# Altium footprint library jumper.PCBLIB: 66 footprints (part 2 of 5)
Each footprint in its own frame and in the unit in brackets; x right, y up, seen from the top. Pads: shape width x height; smd on the part's side, far side on the other; paste and mask are expansions set on the pad; w line width, h text height; cw(c..) or ccw(c..) is an arc to the next point about the centre after c.
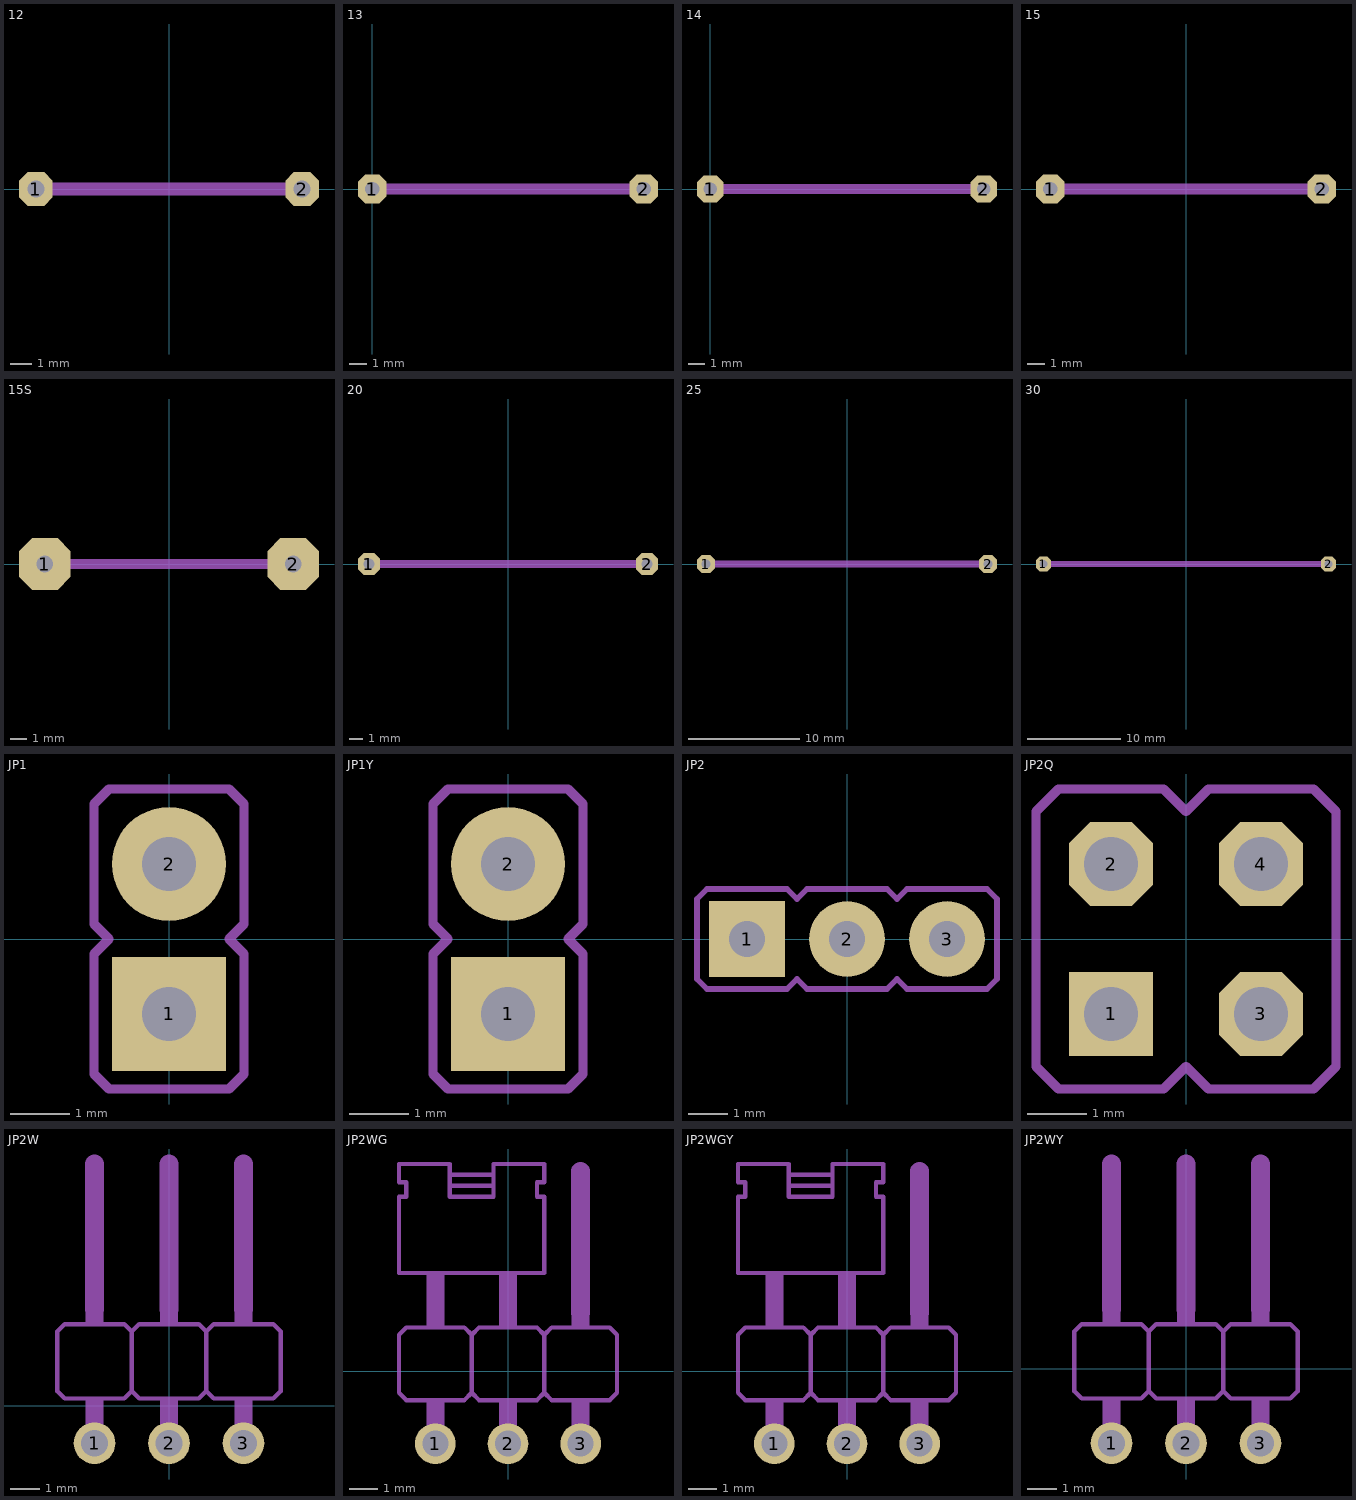
[diagram p1: the footprints below, top view; thin cyan lines are the x and y axes]

## 12 [mil]
pads (2):
  oct 63x63 / inner round 58.2 / far side oct 63x63 hole 32: 1(-250,0) 2(250,0)
Mechanical 3:
  lines w24: -250,0 -205,0 ; 205,0 250,0
Mechanical 7:
  lines w24: -203,0 203,0

## 13 [mil]
pads (2):
  oct 63x63 / inner round 58.2 / far side oct 63x63 hole 32: 1(0,0) 2(600,0)
Mechanical 3:
  lines w24: 0,0 445,0 ; 555,0 600,0
Mechanical 7:
  lines w24: 447,0 553,0

## 14 [mil]
pads (2):
  oct 63x63 / inner round 58.2 / far side oct 63x63 hole 32: 1(0,0) 2(650,0)
Mechanical 3:
  lines w24: 0,0 495,0 ; 605,0 650,0
Mechanical 7:
  lines w24: 497,0 603,0

## 15 [mil]
pads (2):
  oct 63x63 / inner round 58.2 / far side oct 63x63 hole 32: 1(-300,0) 2(300,0)
Mechanical 3:
  lines w24: -300,0 -255,0 ; 255,0 300,0
Mechanical 7:
  lines w24: -253,0 253,0

## 15S [mil]
pads (2):
  oct 125x125 / inner round 115.48 / far side oct 125x125 hole 40: 1(-300,0) 2(300,0)
Mechanical 3:
  lines w24: -300,0 -205,0 ; 205,0 300,0
Mechanical 7:
  lines w24: -203,0 203,0

## 20 [mil]
pads (2):
  oct 63x63 / inner round 58.2 / far side oct 63x63 hole 32: 1(-400,0) 2(400,0)
Mechanical 3:
  lines w24: -400,0 -355,0 ; 355,0 400,0
Mechanical 7:
  lines w24: -353,0 353,0

## 25 [mil]
pads (2):
  oct 63x63 / inner round 58.2 / far side oct 63x63 hole 32: 1(-500,0) 2(500,0)
Mechanical 3:
  lines w24: -500,0 -455,0 ; 455,0 500,0
Mechanical 7:
  lines w24: -453,0 453,0

## 30 [mil]
pads (2):
  oct 63x63 / inner round 58.2 / far side oct 63x63 hole 32: 1(-600,0) 2(600,0)
Mechanical 3:
  lines w24: -600,0 -555,0 ; 555,0 600,0
Mechanical 7:
  lines w24: -553,0 553,0

## JP1 [mil]
pads (2):
  rect 76x76 / inner round 70.21 / far side rect 76x76 hole 36: 1(0,-50)
  round 76 hole 36: 2(0,50)
Mechanical 3:
  region: -12,38 -12,62 12,62 12,38
  region: -12,-62 -12,-38 12,-38 12,-62
Mechanical 7:
  lines w6: -50,-90 -50,-10 -40,0 -50,10 -50,90 -40,100 40,100 50,90 50,10 40,0 50,-10 50,-90 40,-100 -40,-100 -50,-90

## JP1Y [mil]
pads (2):
  rect 76x76 / inner round 70.21 / far side rect 76x76 hole 36: 1(0,-50)
  round 76 hole 36: 2(0,50)
Mechanical 3:
  region: -12,38 -12,62 12,62 12,38
  region: -12,-62 -12,-38 12,-38 12,-62
  lines w6: -50,-80 -50,-20 ; -50,20 -50,80 ; 50,-80 50,-20 ; 50,20 50,80
Mechanical 7:
  lines w6: -50,-80 -50,-90 -40,-100 40,-100 50,-90 50,-80 ; -50,-20 -50,-10 -40,0 -50,10 -50,20 ; -50,80 -50,90 -40,100 40,100 50,90 50,80 ; 50,-20 50,-10 40,0 50,10 50,20

## JP2 [mil]
pads (3):
  rect 76x76 / inner round 70.21 / far side rect 76x76 hole 36: 1(-100,0)
  round 76 hole 36: 2(0,0) 3(100,0)
Mechanical 3:
  region: -112,-12 -112,12 -88,12 -88,-12
  region: -12,-12 -12,12 12,12 12,-12
  region: 88,-12 88,12 112,12 112,-12
Mechanical 7:
  lines w6: -150,-40 -150,40 -140,50 -60,50 -50,40 -40,50 40,50 50,40 60,50 140,50 150,40 150,-40 140,-50 60,-50 50,-40 40,-50 -40,-50 -50,-40 -60,-50 -140,-50 -150,-40

## JP2Q [mil]
pads (4):
  rect 56x56 / inner round 51.74 / far side rect 56x56 hole 36: 1(-50,-50)
  oct 56x56 / inner round 51.74 / far side oct 56x56 hole 36: 2(-50,50) 3(50,-50) 4(50,50)
Mechanical 3:
  region: -62,-62 -62,-38 -38,-38 -38,-62
  region: 38,-62 38,-38 62,-38 62,-62
  region: 38,38 38,62 62,62 62,38
  region: -62,38 -62,62 -38,62 -38,38
Mechanical 7:
  lines w6: -100,-85 -85,-100 -15,-100 0,-85 15,-100 85,-100 100,-85 100,85 85,100 15,100 0,85 -15,100 -85,100 -100,85 -100,-85

## JP2W [mil]
pads (3):
  round 56 hole 36: 1(-100,-50) 2(0,-50) 3(100,-50)
Mechanical 3:
  region: 88,-60 88,-10 112,-10 112,-60
  region: -12,-60 -12,-10 12,-10 12,-60
  region: -112,-60 -112,-10 -88,-10 -88,-60
Mechanical 7:
  region: 88,110 88,130 112,130 112,110
  region: 88,-10 88,10 112,10 112,-10
  region: -12,-10 -12,10 12,10 12,-10
  region: -112,-10 -112,10 -88,10 -88,-10
  region: -12,110 -12,130 12,130 12,110
  region: -112,110 -112,130 -88,130 -88,110
  lines w6: -50,20 -50,100 ; -50,20 -40,10 40,10 50,20 ; -50,20 -60,10 -140,10 -150,20 -150,100 -140,110 -60,110 -50,100 ; -50,100 -40,110 40,110 50,100 ; 50,20 60,10 140,10 150,20 150,100 140,110 60,110 50,100 ; 50,20 50,100
  lines w26: -100,130 -100,325 ; 0,130 0,325 ; 100,130 100,325
  text "1" at -110,50 h60.45
  text "2" at -15,50 h60.45
  text "3" at 80,50 h60.45

## JP2WG [mil]
pads (3):
  round 56 hole 36: 1(-100,-100) 2(0,-100) 3(100,-100)
Mechanical 3:
  region: 88,-110 88,-60 112,-60 112,-110
  region: -12,-110 -12,-60 12,-60 12,-110
  region: -112,-110 -112,-60 -88,-60 -88,-110
Mechanical 7:
  region: 88,60 88,80 112,80 112,60
  region: 88,-60 88,-40 112,-40 112,-60
  region: -12,-60 -12,-40 12,-40 12,-60
  region: -112,-60 -112,-40 -88,-40 -88,-60
  region: -12,60 -12,135 12,135 12,60
  region: -112,60 -112,135 -88,135 -88,60
  lines w6: -80,255 -20,255 ; -80,255 -80,270 ; -80,255 -80,240 -20,240 -20,255 ; -80,270 -80,285 -150,285 -150,260 -140,260 -140,240 -150,240 -150,135 50,135 50,240 40,240 40,260 50,260 50,285 -20,285 -20,270 ; -80,270 -20,270 ; -50,-30 -50,50 ; -50,-30 -40,-40 40,-40 50,-30 ; -50,-30 -60,-40 -140,-40 -150,-30 -150,50 -140,60 -60,60 -50,50 ; -50,50 -40,60 40,60 50,50 ; -20,255 -20,270 ; 50,-30 60,-40 140,-40 150,-30 150,50 140,60 60,60 50,50 ; 50,-30 50,50
  lines w26: 100,80 100,275
  text "1" at -110,0 h60.45
  text "2" at -15,0 h60.45
  text "3" at 80,0 h60.45

## JP2WGY [mil]
pads (3):
  round 56 hole 36: 1(-100,-100) 2(0,-100) 3(100,-100)
Mechanical 3:
  region: 88,-110 88,-40 112,-40 112,-110
  region: -12,-110 -12,-40 12,-40 12,-110
  region: -112,-110 -112,-40 -88,-40 -88,-110
  lines w6: -120,-40 -80,-40 ; -20,-40 20,-40 ; 80,-40 120,-40
Mechanical 7:
  region: -112,60 -112,135 -88,135 -88,60
  region: -12,60 -12,135 12,135 12,60
  region: 88,60 88,80 112,80 112,60
  lines w6: -120,-40 -140,-40 -150,-30 -150,50 -140,60 -60,60 -50,50 ; -80,-40 -60,-40 -50,-30 ; -20,-40 -40,-40 -50,-30 ; 20,-40 40,-40 50,-30 ; 80,-40 60,-40 50,-30 ; 120,-40 140,-40 150,-30 150,50 140,60 60,60 50,50 ; -80,255 -80,240 -20,240 -20,255 ; -80,255 -80,270 ; -80,255 -20,255 ; -80,270 -20,270 ; -80,270 -80,285 -150,285 -150,260 -140,260 -140,240 -150,240 -150,135 50,135 50,240 40,240 40,260 50,260 50,285 -20,285 -20,270 ; -50,-30 -50,50 ; -50,50 -40,60 40,60 50,50 ; -20,255 -20,270 ; 50,-30 50,50
  lines w26: 100,80 100,275
  text "3" at 80,0 h60.45
  text "2" at -15,0 h60.45
  text "1" at -110,0 h60.45

## JP2WY [mil]
pads (3):
  round 56 hole 36: 1(-100,-100) 2(0,-100) 3(100,-100)
Mechanical 3:
  region: 88,-110 88,-40 112,-40 112,-110
  region: -12,-110 -12,-40 12,-40 12,-110
  region: -112,-110 -112,-40 -88,-40 -88,-110
  lines w6: -120,-40 -80,-40 ; -20,-40 20,-40 ; 80,-40 120,-40
Mechanical 7:
  region: -112,60 -112,80 -88,80 -88,60
  region: -12,60 -12,80 12,80 12,60
  region: 88,60 88,80 112,80 112,60
  lines w6: -120,-40 -140,-40 -150,-30 -150,50 -140,60 -60,60 -50,50 ; -80,-40 -60,-40 -50,-30 ; -20,-40 -40,-40 -50,-30 ; 20,-40 40,-40 50,-30 ; 80,-40 60,-40 50,-30 ; 120,-40 140,-40 150,-30 150,50 140,60 60,60 50,50 ; -50,-30 -50,50 ; -50,50 -40,60 40,60 50,50 ; 50,-30 50,50
  lines w26: -100,80 -100,275 ; 0,80 0,275 ; 100,80 100,275
  text "3" at 80,0 h60.45
  text "2" at -15,0 h60.45
  text "1" at -110,0 h60.45